# EAGLE library part MCP2515 (library mastrogippo)
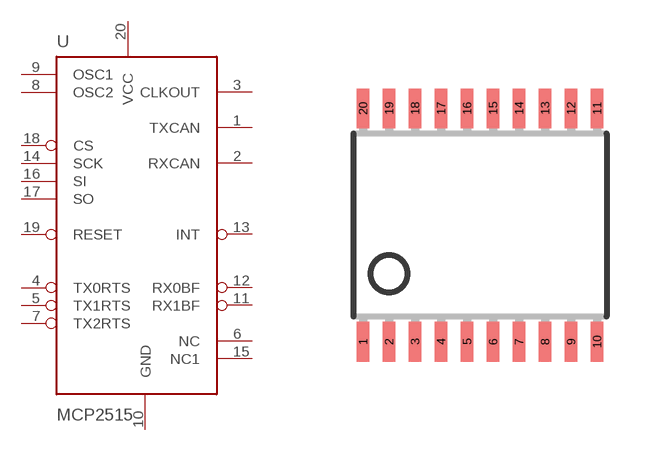
[diagram p13: symbol with the pads of TSSOP20; footprint TSSOP20]

Designator prefix -

## MCP2515  [TSSOP20]
1  TXCAN  out
2  RXCAN  in
3  CLKOUT  out
4  TX0RTS  in
5  TX1RTS  in
6  NC
7  TX2RTS  in
8  OSC2  out
9  OSC1  in
10  GND
11  RX1BF  out
12  RX0BF  out
13  INT  out
14  SCK  in
15  NC1
16  SI  in
17  SO  out
18  CS  in
19  RESET  in
20  VCC

## Footprint TSSOP20 (pad centres in mm)
smd 0.305 x 0.991: 1 -2.925,-2.918; 2 -2.275,-2.918; 3 -1.625,-2.918; 4 -0.975,-2.918; 5 -0.325,-2.918; 6 0.325,-2.918; 7 0.975,-2.918; 8 1.625,-2.918; 9 2.275,-2.918; 10 2.925,-2.918; 11 2.925,2.918; 12 2.275,2.918; 13 1.625,2.918; 14 0.975,2.918; 15 0.325,2.918; 16 -0.325,2.918; 17 -0.975,2.918; 18 -1.625,2.918; 19 -2.275,2.918; 20 -2.925,2.918